# Altium footprint library Connectors.PcbLib: 20 footprints (part 1 of 2)
Each footprint in its own frame and in the unit in brackets; x right, y up, seen from the top. Pads: shape width x height; smd on the part's side, far side on the other; paste and mask are expansions set on the pad; w line width, h text height; cw(c..) or ccw(c..) is an arc to the next point about the centre after c.
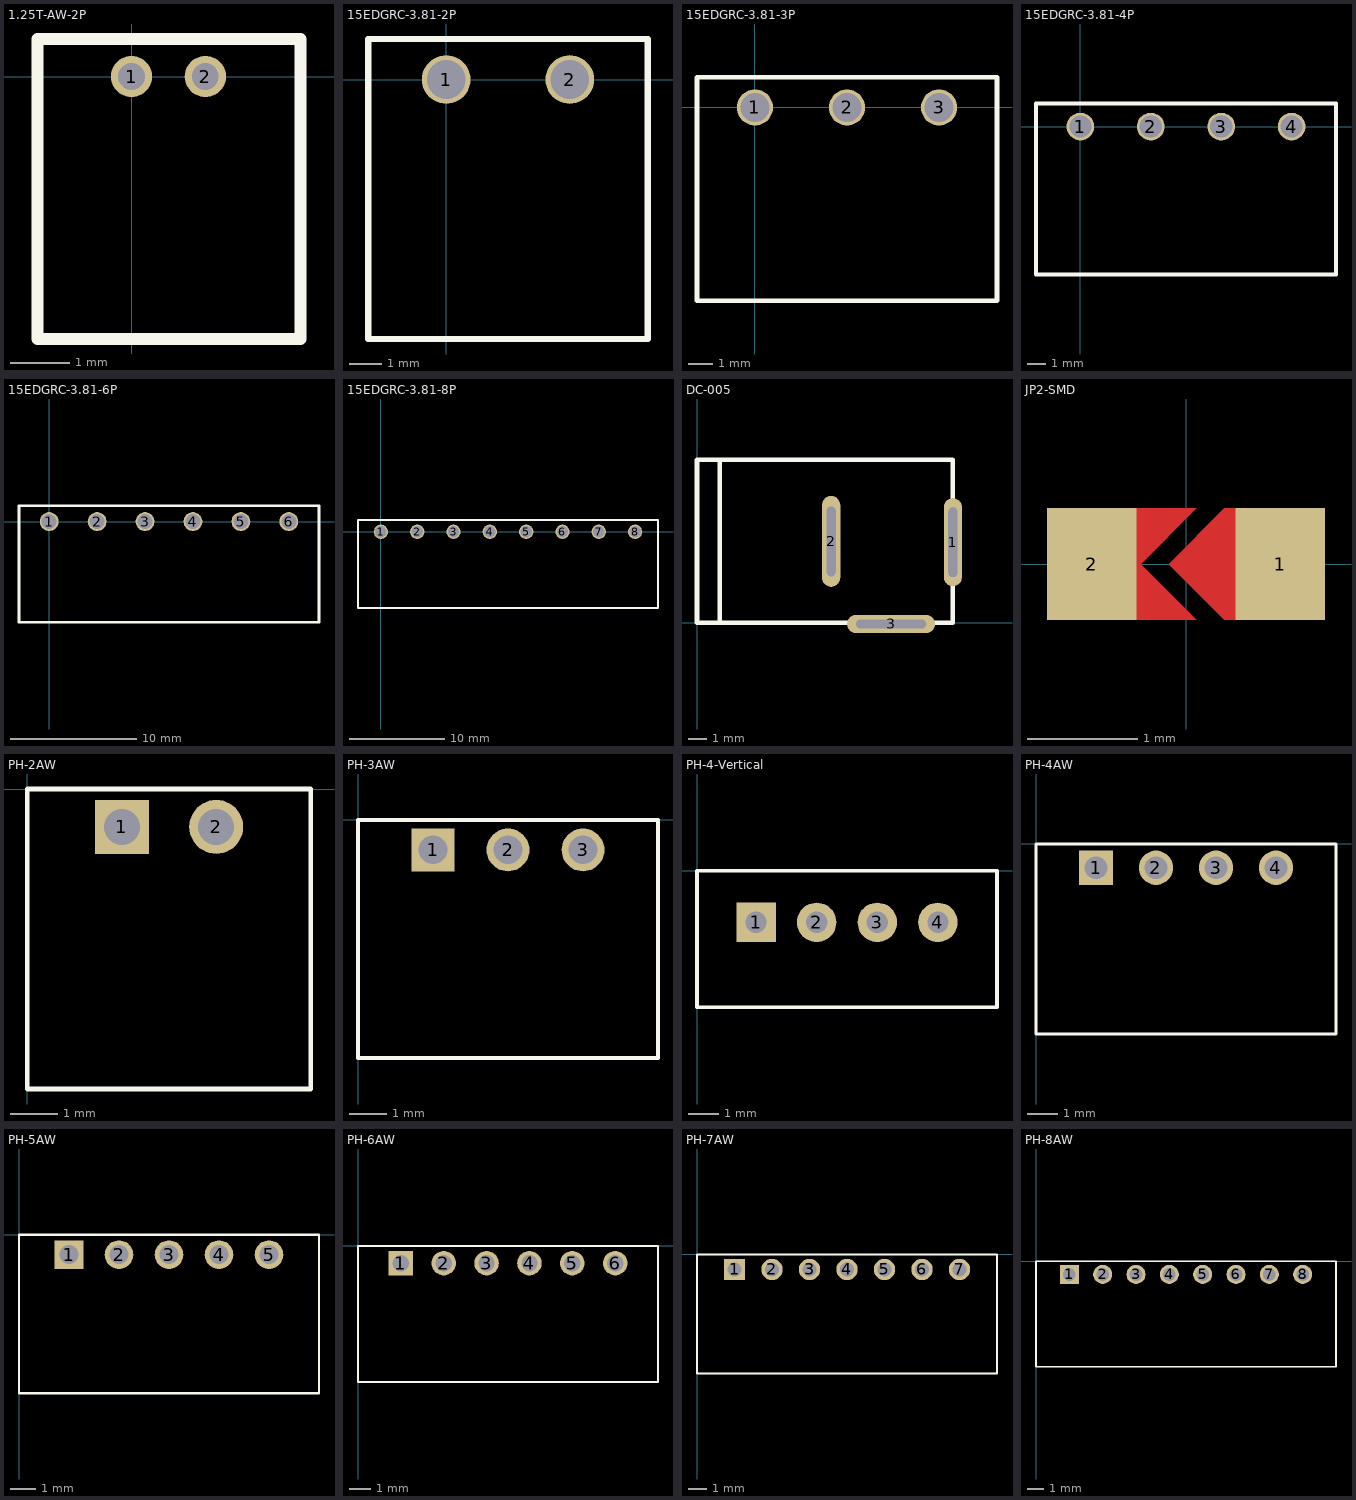
[diagram p0: the footprints below, top view; thin cyan lines are the x and y axes]

## 1.25T-AW-2P [mm]
pads (2):
  round 0.7 hole 0.45: 1(0,0) 2(1.25,0)
Top Overlay:
  lines w0.2: -1.59,-4.445 -1.59,0.635 2.86,0.635 2.86,-4.445 -1.59,-4.445

## 15EDGRC-3.81-2P [mm]
height 7
pads (2):
  round 1.5 hole 1.2: 1(0,0) 2(3.81,0)
Top Overlay:
  lines w0.2: -2.4,-8 -2.4,1.25 6.21,1.25 6.21,-8 -2.4,-8

## 15EDGRC-3.81-3P [mm]
height 7
pads (3):
  round 1.5 hole 1.2: 1(0,0) 2(3.81,0) 3(7.62,0)
Top Overlay:
  lines w0.2: -2.4,-8 -2.4,1.25 10.02,1.25 10.02,-8 -2.4,-8

## 15EDGRC-3.81-4P [mm]
height 7
pads (4):
  round 1.5 hole 1.2: 1(0,0) 2(3.81,0) 3(7.62,0) 4(11.43,0)
Top Overlay:
  lines w0.2: -2.4,-8 -2.4,1.25 13.83,1.25 13.83,-8 -2.4,-8

## 15EDGRC-3.81-6P [mm]
height 7
pads (6):
  round 1.5 hole 1.2: 1(0,0) 2(3.81,0) 3(7.62,0) 4(11.43,0) 5(15.24,0) 6(19.05,0)
Top Overlay:
  lines w0.2: -2.4,-8 -2.4,1.25 21.45,1.25 21.45,-8 -2.4,-8

## 15EDGRC-3.81-8P [mm]
height 7
pads (8):
  round 1.5 hole 1.2: 1(0,0) 2(3.81,0) 3(7.62,0) 4(11.43,0) 5(15.24,0) 6(19.05,0) 7(22.86,0) 8(26.67,0)
Top Overlay:
  lines w0.2: 28.956,1.25 -2.4,1.25 -2.4,-8 29.07,-8 29.07,1.25

## DC-005 [mil]
pads (3):
  oval 39.37x190 hole 19 slot 150 at 90 deg: 1(551.18,173.2)
  oval 39.37x196 hole 19 slot 150 at 90 deg: 2(289,175)
  oval 190x39.37 hole 19 slot 150 at 0 deg: 3(418,-3)
Top Overlay:
  lines w10: 49,2 49,350.39 ; 0,0 551.18,0 551.18,350.39 0,350.39 0,0

## JP2-SMD [mil]
pads (2):
  rect 32x40 smd: 1(33.75,0) 2(-33.75,0)
Top Layer:
  region: -26.25,0 -16.25,0 3.75,-20 -26.25,-20
  region: -26.25,0 -16.25,0 3.75,20 -26.25,20
  region: 23.75,20 13.75,20 -6.25,0 13.75,-20 23.75,-20
Top Paste:
  region: -26.25,0 -16.25,0 3.75,-20 -26.25,-20
  region: -26.25,0 -16.25,0 3.75,20 -26.25,20
  region: 23.75,20 13.75,20 -6.25,0 13.75,-20 23.75,-20
Top Solder:
  region: -26.25,0 -12.25,0 11.75,-24 -26.25,-24
  region: -26.25,0 -12.25,0 11.75,24 -26.25,24
  region: 23.75,24 13.75,24 -10.25,0 13.75,-24 23.75,-24

## PH-2AW [mil]
pads (2):
  rect 45x45 hole 30: 1(78.74,-31.5)
  round 45 hole 30: 2(157.48,-31.5)
Top Overlay:
  lines w3.94: 0,-250 0,0 236.22,0 236.22,-250 0,-250

## PH-3AW [mil]
pads (3):
  rect 45x45 hole 30: 1(78.74,-31.5)
  round 45 hole 30: 2(157.48,-31.5) 3(236.22,-31.5)
Top Overlay:
  lines w3.94: 0,-250 314.96,-250 314.96,0 0,0 0,-250

## PH-4-Vertical [mm]
pads (4):
  rect 1.3x1.3 hole 0.7: 1(1.95,-1.7)
  round 1.3 hole 0.7: 2(3.95,-1.7) 3(5.95,-1.7) 4(7.95,-1.7)
Top Overlay:
  lines w0.127: 0,-4.5 0,0 9.9,0 9.9,-4.5 0,-4.5

## PH-4AW [mil]
pads (4):
  rect 45x45 hole 30: 1(78.74,-31.5)
  round 45 hole 30: 2(157.48,-31.5) 3(236.22,-31.5) 4(314.96,-31.5)
Top Overlay:
  lines w3.94: 0,-250 0,0 393.7,0 393.7,-250 0,-250

## PH-5AW [mil]
pads (5):
  rect 45x45 hole 30: 1(78.74,-31.5)
  round 45 hole 30: 2(157.48,-31.5) 3(236.22,-31.5) 4(314.96,-31.5) 5(393.7,-31.5)
Top Overlay:
  lines w3.94: 0,-250 472.44,-250 472.44,0 0,0 0,-250

## PH-6AW [mil]
pads (6):
  rect 45x45 hole 30: 1(78.74,-31.5)
  round 45 hole 30: 2(157.48,-31.5) 3(236.22,-31.5) 4(314.96,-31.5) 5(393.7,-31.5) 6(472.44,-31.5)
Top Overlay:
  lines w3.94: 0,-250 551.18,-250 551.18,0 0,0 0,-250

## PH-7AW [mil]
pads (7):
  rect 45x45 hole 30: 1(78.74,-31.5)
  round 45 hole 30: 2(157.48,-31.5) 3(236.22,-31.5) 4(314.96,-31.5) 5(393.7,-31.5) 6(472.44,-31.5) 7(551.18,-31.5)
Top Overlay:
  lines w3.94: 0,-250 629.92,-250 629.92,0 0,0 0,-250

## PH-8AW [mil]
pads (8):
  rect 45x45 hole 30: 1(78.74,-31.5)
  round 45 hole 30: 2(157.48,-31.5) 3(236.22,-31.5) 4(314.96,-31.5) 5(393.7,-31.5) 6(472.44,-31.5) 7(551.18,-31.5) 8(629.92,-31.5)
Top Overlay:
  lines w3.94: 0,-250 708.66,-250 708.66,0 0,0 0,-250